# Altium integrated library 1935161.IntLib: 1 symbol
Pins are listed as number, name and electrical type; pins without a type are passive.

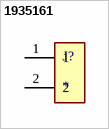
[diagram p0: symbol 1935161]

## 1935161
designator J?
Conn Terminal Blocks 2 POS 5mm Solder ST Thru-Hole 16A; MP: 1935161; Availability: Unavailable; Package: None; Value: *; Price: None
footprint PHOENIX_1935161
pins: 1, 2